# Altium schematic symbol library DRV5021-Q1.SchLib: 1 symbol
Pins are listed as number, name and electrical type; pins without a type are passive.

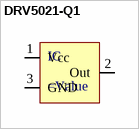
[diagram p0: symbol DRV5021-Q1]

## DRV5021-Q1
designator IC
footprint SOT23-3P95_237X112L40X40N (Small Outline Transistor, SOT-23 Type, 0.95 mm pitch; 3 pin, 2.92 mm L X 1.30 mm W X 1.12 mm H Body)
pins: 1 Vcc, 2 Out, 3 GND